# Altium footprint library SMD,16.9x16.9mm.PcbLib: 1 footprints
Each footprint in its own frame and in the unit in brackets; x right, y up, seen from the top. Pads: shape width x height; smd on the part's side, far side on the other; paste and mask are expansions set on the pad; w line width, h text height; cw(c..) or ccw(c..) is an arc to the next point about the centre after c.
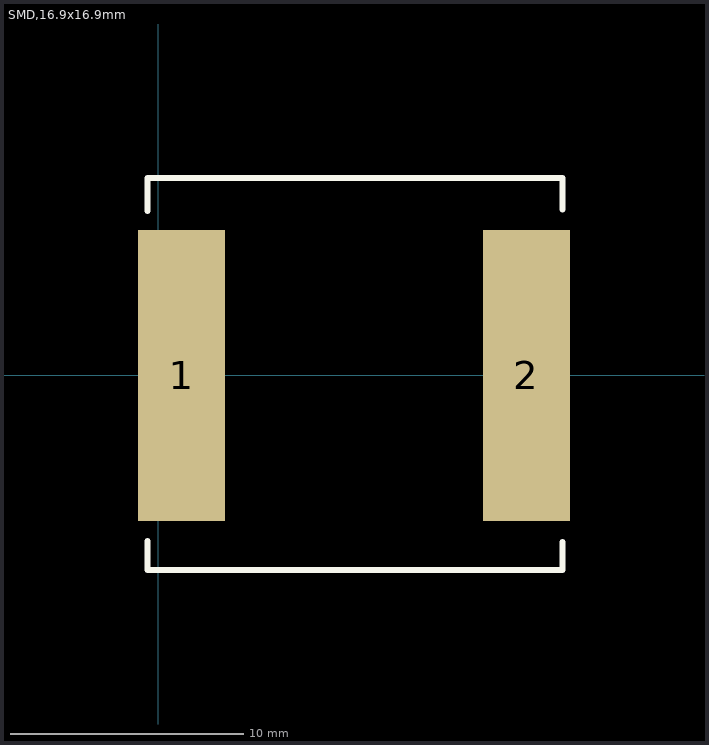
[diagram p0: the footprint, top view; thin cyan lines are the x and y axes]

## SMD,16.9x16.9mm [mm]
pads (2):
  rect 3.75x12.5 smd: 1(1,0) 2(15.8,0)
Top Overlay:
  lines w0.254: -0.45,-8.35 17.35,-8.35 17.35,-7.15 ; -0.45,-8.312 -0.45,-7.1 ; -0.45,7.05 -0.45,8.437 ; -0.45,8.475 17.35,8.475 17.35,7.125
3D body "TMPC1707.step": height 6.75, standoff 0, extent -0.55,-8.425 17.35,8.475